# Altium integrated library WE-HCF_rev15a.intlib: 23 symbols
Pins are listed as number, name and electrical type; pins without a type are passive.

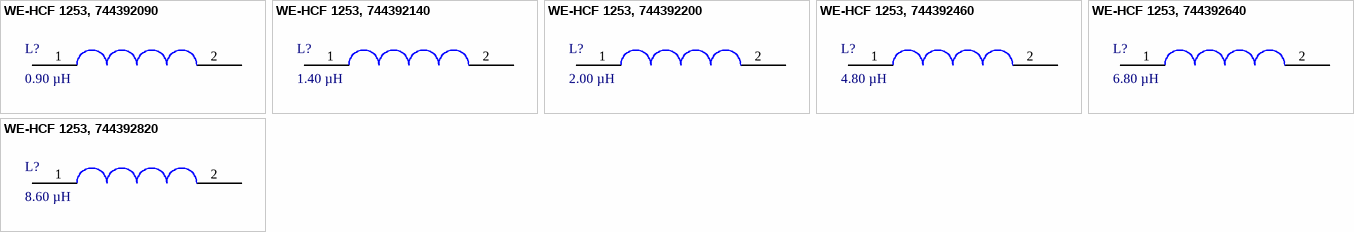
[diagram p0: symbols WE-HCF 1253, 744392090 to WE-HCF 1253, 744392820]

## WE-HCF 1253, 744392090
designator L?, comment 0.90 µH
SMD Flat Wire Ferrite Inductor WE-HCF Hight Current, L=0.90 µH; partNo: 744392090; Inductance: 0.90 µH; ComponentLink1Description: Manufacturer; ComponentLink1URL: http://www.we-online.de; Created by: Christin Zierenner; Created Date: November 2009
footprint WE-HCF 1253 (SMD Inductor, 3-Leads, Body 12.6x12.6mm (max))
pins: 1 (PCINT13/MOSI) PB5, 2 (PCINT14/MISO) PB6

## WE-HCF 1253, 744392140
designator L?, comment 1.40 µH
SMD Flat Wire Ferrite Inductor WE-HCF Hight Current, L=1.40 µH; partNo: 744392140; Inductance: 1.40 µH; ComponentLink1Description: Manufacturer; ComponentLink1URL: http://www.we-online.de; Created by: Christin Zierenner; Created Date: November 2009
footprint WE-HCF 1253 (SMD Inductor, 3-Leads, Body 12.6x12.6mm (max))
pins: 1 (PCINT13/MOSI) PB5, 2 (PCINT14/MISO) PB6

## WE-HCF 1253, 744392200
designator L?, comment 2.00 µH
SMD Flat Wire Ferrite Inductor WE-HCF Hight Current, L=2.00 µH; partNo: 744392200; Inductance: 2.00 µH; ComponentLink1Description: Manufacturer; ComponentLink1URL: http://www.we-online.de; Created by: Christin Zierenner; Created Date: November 2009
footprint WE-HCF 1253 (SMD Inductor, 3-Leads, Body 12.6x12.6mm (max))
pins: 1 (PCINT13/MOSI) PB5, 2 (PCINT14/MISO) PB6

## WE-HCF 1253, 744392460
designator L?, comment 4.80 µH
SMD Flat Wire Ferrite Inductor WE-HCF Hight Current, L=4.80 µH; partNo: 744392460; Inductance: 4.80 µH; ComponentLink1Description: Manufacturer; ComponentLink1URL: http://www.we-online.de; Created by: Christin Zierenner; Created Date: November 2009
footprint WE-HCF 1253 (SMD Inductor, 3-Leads, Body 12.6x12.6mm (max))
pins: 1 (PCINT13/MOSI) PB5, 2 (PCINT14/MISO) PB6

## WE-HCF 1253, 744392640
designator L?, comment 6.80 µH
SMD Flat Wire Ferrite Inductor WE-HCF Hight Current, L=6.80 µH; partNo: 744392640; Inductance: 6.80 µH; ComponentLink1Description: Manufacturer; ComponentLink1URL: http://www.we-online.de; Created by: Christin Zierenner; Created Date: November 2009
footprint WE-HCF 1253 (SMD Inductor, 3-Leads, Body 12.6x12.6mm (max))
pins: 1 (PCINT13/MOSI) PB5, 2 (PCINT14/MISO) PB6

## WE-HCF 1253, 744392820
designator L?, comment 8.60 µH
SMD Flat Wire Ferrite Inductor WE-HCF Hight Current, L=8.60 µH; partNo: 744392820; Inductance: 8.60 µH; ComponentLink1Description: Manufacturer; ComponentLink1URL: http://www.we-online.de; Created by: Christin Zierenner; Created Date: November 2009
footprint WE-HCF 1253 (SMD Inductor, 3-Leads, Body 12.6x12.6mm (max))
pins: 1 (PCINT13/MOSI) PB5, 2 (PCINT14/MISO) PB6


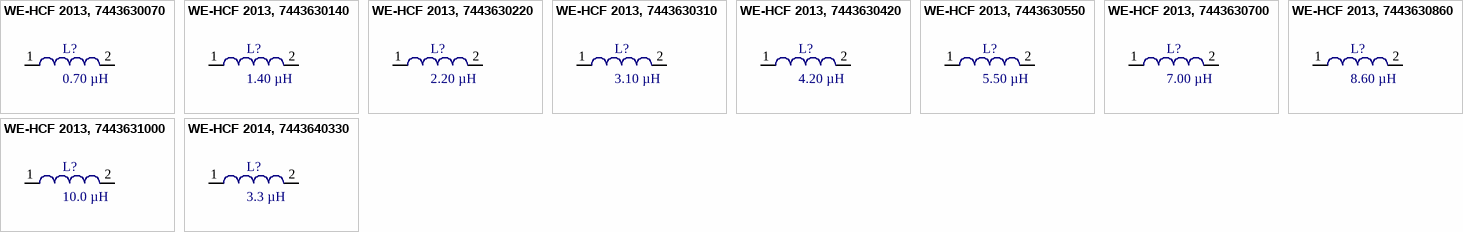
[diagram p1: symbols WE-HCF 2013, 7443630070 to WE-HCF 2014, 7443640330]

## WE-HCF 2013, 7443630070
designator L?, comment 0.70 µH
SMD High Current Inductor WE-HCF, L=0.70 µH; partNo: 7443630070; Inductance: 0.70 µH; ComponentLink1Description: Manufacturer; ComponentLink1URL: http://www.we-online.de; Created by: Christin Zierenner; Created Date: August 2010; ComponentLink2Description: Datasheet; ComponentLink2URL: http://katalog.we-online.de/kataloge/eisos/media/pdf/7443630070.pdf
footprint WE-HCF 2013 (SMD Inductor, 3-Leads, Body 21,8x21,5mm (max))
pins: 1, 2

## WE-HCF 2013, 7443630140
designator L?, comment 1.40 µH
SMD High Current Inductor WE-HCF, L=1.40 µH; partNo: 7443630140; Inductance: 1.40 µH; ComponentLink1Description: Manufacturer; ComponentLink1URL: http://www.we-online.de; Created by: Christin Zierenner; Created Date: August 2010; ComponentLink2Description: Datasheet; ComponentLink2URL: http://katalog.we-online.de/kataloge/eisos/media/pdf/7443630140.pdf
footprint WE-HCF 2013 (SMD Inductor, 3-Leads, Body 21,8x21,5mm (max))
pins: 1, 2

## WE-HCF 2013, 7443630220
designator L?, comment 2.20 µH
SMD High Current Inductor WE-HCF, L=2.20 µH; partNo: 7443630220; Inductance: 2.20 µH; ComponentLink1Description: Manufacturer; ComponentLink1URL: http://www.we-online.de; Created by: Christin Zierenner; Created Date: August 2010; ComponentLink2Description: Datasheet; ComponentLink2URL: http://katalog.we-online.de/kataloge/eisos/media/pdf/7443630220.pdf
footprint WE-HCF 2013 (SMD Inductor, 3-Leads, Body 21,8x21,5mm (max))
pins: 1, 2

## WE-HCF 2013, 7443630310
designator L?, comment 3.10 µH
SMD High Current Inductor WE-HCF, L=3.10 µH; partNo: 7443630310; Inductance: 3.10 µH; ComponentLink1Description: Manufacturer; ComponentLink1URL: http://www.we-online.de; Created by: Christin Zierenner; Created Date: August 2010; ComponentLink2Description: Datasheet; ComponentLink2URL: http://katalog.we-online.de/kataloge/eisos/media/pdf/7443630310.pdf
footprint WE-HCF 2013 (SMD Inductor, 3-Leads, Body 21,8x21,5mm (max))
pins: 1, 2

## WE-HCF 2013, 7443630420
designator L?, comment 4.20 µH
SMD High Current Inductor WE-HCF, L=4.20 µH; partNo: 7443630420; Inductance: 4.20 µH; ComponentLink1Description: Manufacturer; ComponentLink1URL: http://www.we-online.de; Created by: Christin Zierenner; Created Date: August 2010; ComponentLink2Description: Datasheet; ComponentLink2URL: http://katalog.we-online.de/kataloge/eisos/media/pdf/7443630420.pdf
footprint WE-HCF 2013 (SMD Inductor, 3-Leads, Body 21,8x21,5mm (max))
pins: 1, 2

## WE-HCF 2013, 7443630550
designator L?, comment 5.50 µH
SMD High Current Inductor WE-HCF, L=5.50 µH; partNo: 7443630550; Inductance: 5.50 µH; ComponentLink1Description: Manufacturer; ComponentLink1URL: http://www.we-online.de; Created by: Christin Zierenner; Created Date: August 2010; ComponentLink2Description: Datasheet; ComponentLink2URL: http://katalog.we-online.de/kataloge/eisos/media/pdf/7443630550.pdf
footprint WE-HCF 2013 (SMD Inductor, 3-Leads, Body 21,8x21,5mm (max))
pins: 1, 2

## WE-HCF 2013, 7443630700
designator L?, comment 7.00 µH
SMD High Current Inductor WE-HCF, L=7.00 µH; partNo: 7443630700; Inductance: 7.00 µH; ComponentLink1Description: Manufacturer; ComponentLink1URL: http://www.we-online.de; Created by: Christin Zierenner; Created Date: August 2010; ComponentLink2Description: Datasheet; ComponentLink2URL: http://katalog.we-online.de/kataloge/eisos/media/pdf/7443630700.pdf
footprint WE-HCF 2013 (SMD Inductor, 3-Leads, Body 21,8x21,5mm (max))
pins: 1, 2

## WE-HCF 2013, 7443630860
designator L?, comment 8.60 µH
SMD High Current Inductor WE-HCF, L=8.60 µH; partNo: 7443630860; Inductance: 8.60 µH; ComponentLink1Description: Manufacturer; ComponentLink1URL: http://www.we-online.de; Created by: Christin Zierenner; Created Date: August 2010; ComponentLink2Description: Datasheet; ComponentLink2URL: http://katalog.we-online.de/kataloge/eisos/media/pdf/7443630860.pdf
footprint WE-HCF 2013 (SMD Inductor, 3-Leads, Body 21,8x21,5mm (max))
pins: 1, 2

## WE-HCF 2013, 7443631000
designator L?, comment 10.0 µH
SMD High Current Inductor WE-HCF, L=10.0 µH; partNo: 7443631000; Inductance: 10.0 µH; ComponentLink1Description: Manufacturer; ComponentLink1URL: http://www.we-online.de; Created by: Christin Zierenner; Created Date: August 2010; ComponentLink2Description: Datasheet; ComponentLink2URL: http://katalog.we-online.de/kataloge/eisos/media/pdf/7443631000.pdf
footprint WE-HCF 2013 (SMD Inductor, 3-Leads, Body 21,8x21,5mm (max))
pins: 1, 2

## WE-HCF 2014, 7443640330
designator L?, comment 3.3 µH
SMD High Current Inductor WE-HCF, L=3.3 µH; partNo: 7443640330; Inductance: 3.3 µH; ComponentLink1Description: Manufacturer; ComponentLink1URL: http://www.we-online.de; Created by: Christin Zierenner; Created Date: Oct-2014; ComponentLink2Description: Datasheet; ComponentLink2URL: http://katalog.we-online.de/kataloge/eisos/media/pdf/7443640330.pdf
footprint WE-HCF 2013 (SMD Inductor, 3-Leads, Body 21,8x21,5mm (max))
pins: 1, 2


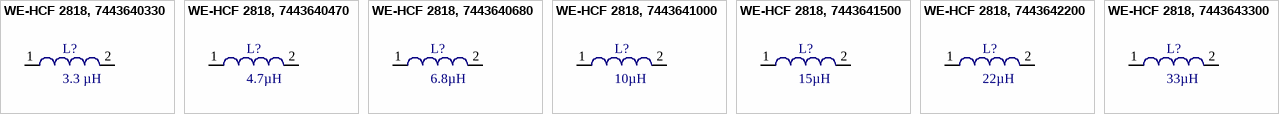
[diagram p2: symbols WE-HCF 2818, 7443640330 to WE-HCF 2818, 7443643300]

## WE-HCF 2818, 7443640330
designator L?, comment 3.3 µH
SMD High Current Inductor WE-HCF, L=3.3 µH; PartNo: 7443640330; Inductance: 3.3 µH; ComponentLink1Description: Manufacturer; ComponentLink1URL: http://www.we-online.de; Created by: Christin Otto; Created Date: Oct-2014; ComponentLink2Description: Datasheet; ComponentLink2URL: http://katalog.we-online.de/kataloge/eisos/media/pdf/7443640330.pdf
footprint WE-HCF 2818 (SMD Inductor, 3-Leads, Body 21,5x28mm (max))
pins: 1, 2

## WE-HCF 2818, 7443640470
designator L?, comment 4.7µH
SMD High Current Inductor WE-HCF, L=4.7µH; PartNo: 7443640470; Inductance: 4.7µH; ComponentLink1Description: Manufacturer; ComponentLink1URL: http://www.we-online.de; Created by: Christin Otto; Created Date: Oct-2014; ComponentLink2Description: Datasheet; ComponentLink2URL: http://katalog.we-online.de/kataloge/eisos/media/pdf/7443640470.pdf
footprint WE-HCF 2818 (SMD Inductor, 3-Leads, Body 21,5x28mm (max))
pins: 1, 2

## WE-HCF 2818, 7443640680
designator L?, comment 6.8µH
SMD High Current Inductor WE-HCF, L=6.8µH; PartNo: 7443640680; Inductance: 6.8µH; ComponentLink1Description: Manufacturer; ComponentLink1URL: http://www.we-online.de; Created by: Christin Zierenner; Created Date: Oct-2014; ComponentLink2Description: Datasheet; ComponentLink2URL: http://katalog.we-online.de/kataloge/eisos/media/pdf/7443640680.pdf
footprint WE-HCF 2818 (SMD Inductor, 3-Leads, Body 21,5x28mm (max))
pins: 1, 2

## WE-HCF 2818, 7443641000
designator L?, comment 10µH
SMD High Current Inductor WE-HCF, L=10µH; partNo: 7443641000; Inductance: 10µH; ComponentLink1Description: Manufacturer; ComponentLink1URL: http://www.we-online.de; Created by: Christin Otto; Created Date: Oct-2014; ComponentLink2Description: Datasheet; ComponentLink2URL: http://katalog.we-online.de/kataloge/eisos/media/pdf/7443641000.pdf
footprint WE-HCF 2818 (SMD Inductor, 3-Leads, Body 21,5x28mm (max))
pins: 1, 2

## WE-HCF 2818, 7443641500
designator L?, comment 15µH
SMD High Current Inductor WE-HCF, L=15µH; PartNo: 7443641500; Inductance: 15µH; ComponentLink1Description: Manufacturer; ComponentLink1URL: http://www.we-online.de; Created by: Christin Zierenner; Created Date: Oct-2014; ComponentLink2Description: Datasheet; ComponentLink2URL: http://katalog.we-online.de/kataloge/eisos/media/pdf/7443641500.pdf
footprint WE-HCF 2818 (SMD Inductor, 3-Leads, Body 21,5x28mm (max))
pins: 1, 2

## WE-HCF 2818, 7443642200
designator L?, comment 22µH
SMD High Current Inductor WE-HCF, L=22µH; PartNo: 7443642200; Inductance: 22µH; ComponentLink1Description: Manufacturer; ComponentLink1URL: http://www.we-online.de; Created by: Christin Zierenner; Created Date: Oct-2014; ComponentLink2Description: Datasheet; ComponentLink2URL: http://katalog.we-online.de/kataloge/eisos/media/pdf/7443642200.pdf
footprint WE-HCF 2818 (SMD Inductor, 3-Leads, Body 21,5x28mm (max))
pins: 1, 2

## WE-HCF 2818, 7443643300
designator L?, comment 33µH
SMD High Current Inductor WE-HCF, L=33µH; PartNo: 7443643300; Inductance: 33µH; ComponentLink1Description: Manufacturer; ComponentLink1URL: http://www.we-online.de; Created by: Christin Zierenner; Created Date: Oct-2014; ComponentLink2Description: Datasheet; ComponentLink2URL: http://katalog.we-online.de/kataloge/eisos/media/pdf/7443643300.pdf
footprint WE-HCF 2818 (SMD Inductor, 3-Leads, Body 21,5x28mm (max))
pins: 1, 2